# Altium footprint library LFTCXO073006CUTT.PcbLib: 1 footprints
Each footprint in its own frame and in the unit in brackets; x right, y up, seen from the top. Pads: shape width x height; smd on the part's side, far side on the other; paste and mask are expansions set on the pad; w line width, h text height; cw(c..) or ccw(c..) is an arc to the next point about the centre after c.
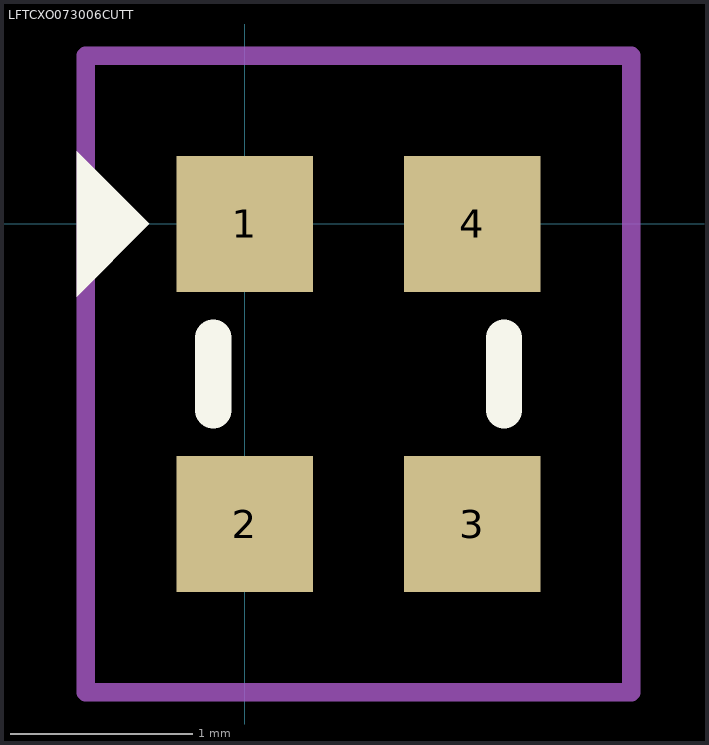
[diagram p0: the footprint, top view; thin cyan lines are the x and y axes]

## LFTCXO073006CUTT [mm]
pads (4):
  rect 0.75x0.75 smd: 1(0,0) 2(0,-1.65) 3(1.25,-1.65) 4(1.25,0)
Top Overlay:
  region: -0.925,-0.4 -0.925,0.4 -0.525,0
  lines w0.2: -0.175,-1.025 -0.175,-0.625 ; 1.425,-1.025 1.425,-0.625
Top Courtyard:
  lines w0.1: -0.875,-2.575 0.6,-2.575 2.125,-2.575 2.125,0.925 -0.875,0.925 -0.875,-2.575
3D body "Crys_NDK_NZ2520SHA-80M-END5301A_eec.STEP": height 0.9, standoff 0, extent -0.375,-2.075 1.625,0.425